# Altium schematic symbol library OPAMP_V1.SchLib: 1 symbol
Pins are listed as number, name and electrical type; pins without a type are passive.

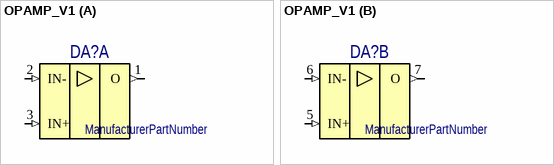
[diagram p0: symbol OPAMP_V1]

## OPAMP_V1
designator DA?
ManufacturerPartNumber: ManufacturerPartNumber
part A pins: 1 O (out), 2 IN- (in), 3 IN+ (in), 4 V- (power) hidden to GND, 8 V+ (power) hidden to 3V3
part B pins: 5 IN+ (in), 6 IN- (in), 7 O (out)
1 alternate drawing of the same symbol